# Altium footprint library LGA-16(3.0X3.0).PcbLib: 1 footprints
Each footprint in its own frame and in the unit in brackets; x right, y up, seen from the top. Pads: shape width x height; smd on the part's side, far side on the other; paste and mask are expansions set on the pad; w line width, h text height; cw(c..) or ccw(c..) is an arc to the next point about the centre after c.
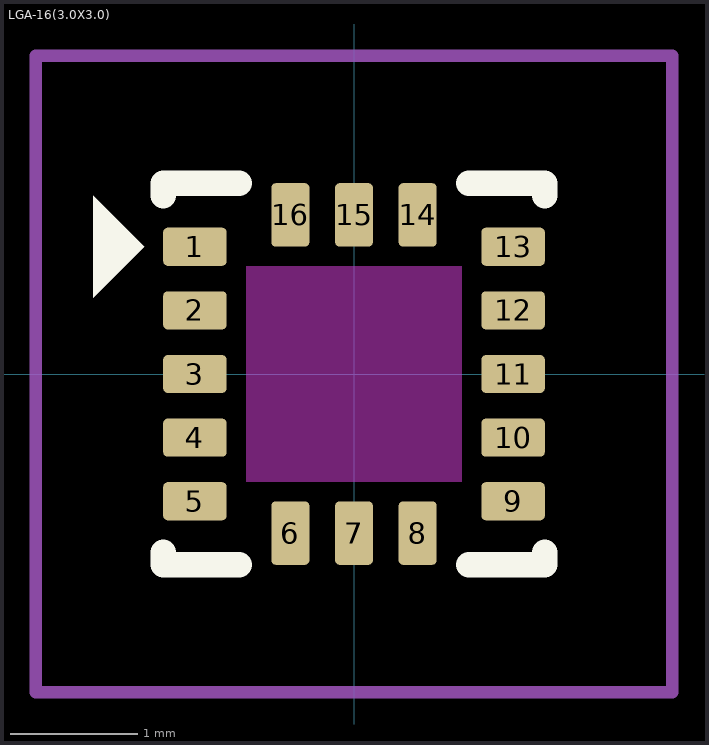
[diagram p0: the footprint, top view; thin cyan lines are the x and y axes]

## LGA-16(3.0X3.0) [mm]
pads (16):
  rrect25% 0.5x0.3 smd: 1(-1.25,1) 2(-1.25,0.5) 3(-1.25,0) 4(-1.25,-0.5) 5(-1.25,-1) 9(1.25,-1) 10(1.25,-0.5) 11(1.25,0) 12(1.25,0.5) 13(1.25,1)
  rrect25% 0.3x0.5 smd: 6(-0.5,-1.25) 7(0,-1.25) 8(0.5,-1.25) 14(0.5,1.25) 15(0,1.25) 16(-0.5,1.25)
Top Layer keep-out:
  rectangle: -0.85,-0.85 0.85,0.85
Top Overlay:
  region: -2.05,0.6 -2.05,1.4 -1.65,1
  lines w0.2: -1.5,-1.4 -1.5,-1.5 -0.9,-1.5 ; -1.5,1.4 -1.5,1.5 -0.9,1.5 ; 0.9,-1.5 1.5,-1.5 1.5,-1.4 ; 0.9,1.5 1.5,1.5 1.5,1.4
Top Courtyard:
  lines w0.1: -2.5,-2.5 -1.5,-2.5 2.5,-2.5 2.5,2.5 -2.5,2.5 -2.5,-2.5
3D body "ICM-20602.STEP": height 0.8, standoff 0, extent -1.5,-1.5 1.5,1.5